# Altium schematic symbol library TPS3808GxxDBVRQ1.Schlib: 1 symbol
Pins are listed as number, name and electrical type; pins without a type are passive.

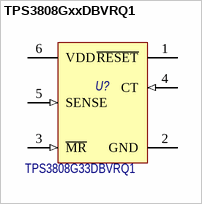
[diagram p0: symbol TPS3808GxxDBVRQ1]

## TPS3808GxxDBVRQ1
designator U?, comment TPS3808G33DBVRQ1
Automotive Catalog Low Quiescent Current, Programmable-Delay Supervisory Circuit, 1 Supply Monitored, -40 to 125 degC, 6-pin SOT-23 (DBV), Green (RoHS & no Sb/Br); Назначение: Контроллер питания с программируемой задержкой; Потребление, Вт: 0,001; ComponentLink1Description: Datasheet; ComponentLink1URL: http://www.ti.com/lit/ds/symlink/tps3808-q1.pdf; Наименование: TPS3808G33DBVRQ1
footprint SOT-23_JEDEC-MO-178 (6-Lead SOT23, JEDEC-178)
pins: 1 ~{RESET} (oc) "Reset. This is an open-drain output that is driven to a low impedance state when R\E\S\E\T\ is asserted (either  the SENSE input is lower than the threshold voltage (VIT) or the M\R\ pin is set to a logic low). R\E\S\E\T\ (See Datasheet)", 2 GND (power) "Ground", 3 ~{MR} (in) "Manual reset. Driving this pin low asserts R\E\S\E\T\. M\R\ is internally tied to VDD by a 90-k ohm pullup resistor.", 4 CT (in) "Reset period programming. Connecting this pin to VDD through a 40-k ohm to 200-k ohm resistor or leaving it open results in fixed delay times (see Electrical Characteristics). Connecting this pin to a ground referenced (See Datasheet)", 5 SENSE (in) "Voltage sense. This pin is connected to the voltage to be monitored. If the voltage at this terminal drops below the threshold voltage (VIT), R\E\S\E\T\ is asserted.", 6 VDD (power) "Supply voltage. It is good analog design practice to place a 0.1-uF ceramic capacitor close to this pin."